# Altium integrated library WE-WPCC Wireless Power Charging Transmitter Coil.IntLib: 5 symbols
Pins are listed as number, name and electrical type; pins without a type are passive.

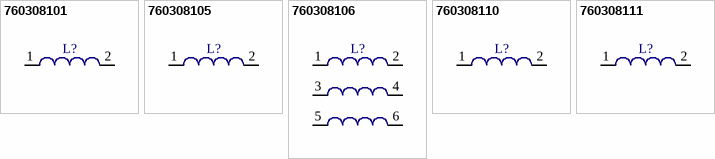
[diagram p0: symbols 760308101 to 760308111]

## 760308101
designator L?
Wireless Power Charging Coil  WE-WPCC, L=24.0 µH; PartNumber: 760308101; Inductance: 24.0 µH; PackageReference: A1; ComponentLink1Description: Manufacturer URL; ComponentLink1URL: http://www.we-online.com; ComponentLink2Description: Datasheet; ComponentLink2URL: http://katalog.we-online.de/kataloge/eisos/media/pdf/760308101.pdf
footprint A1 (THT Charging Coil ,2 Pin, Body 53.3x53.3mm)
pins: 1, 2

## 760308105
designator L?
Wireless Power Charging Coil  WE-WPCC, L=6.3 µH; PartNumber: 760308105; Inductance: 6.3 µH; PackageReference: A5; ComponentLink1Description: Manufacturer URL; ComponentLink1URL: http://www.we-online.com; ComponentLink2Description: Datasheet; ComponentLink2URL: http://katalog.we-online.de/kataloge/eisos/media/pdf/760308105.pdf
footprint A5 (THT Charging Coil ,2 Pin, Body 53.3x53.3mm)
pins: 1, 2

## 760308106
designator L?
Wireless Power Charging Coil  WE-WPCC, L=12.5 µH; PartNumber: 760308106; Inductance: 12.5 µH; PackageReference: A6; ComponentLink1Description: Manufacturer URL; ComponentLink1URL: http://www.we-online.com; ComponentLink2Description: Datasheet; ComponentLink2URL: http://katalog.we-online.de/kataloge/eisos/media/pdf/760308106.pdf
footprint A6 (THT Charging Coil ,2 Pin, Body 130x54.7mm)
pins: 1, 2, 3, 4, 5, 6

## 760308110
designator L?
Wireless Power Charging Coil  WE-WPCC, L=24.0 µH; PartNumber: 760308110; Inductance: 24.0 µH; PackageReference: A10; ComponentLink1Description: Manufacturer URL; ComponentLink1URL: http://www.we-online.com; ComponentLink2Description: Datasheet; ComponentLink2URL: http://katalog.we-online.de/kataloge/eisos/media/pdf/760308110.pdf
footprint A10 (THT Charging Coil ,2 Pin, Body 53.3x53.3mm)
pins: 1, 2

## 760308111
designator L?
Wireless Power Charging Coil  WE-WPCC, L=6.3 µH; PartNumber: 760308111; Inductance: 6.3 µH; PackageReference: A11; ComponentLink1Description: Manufacturer URL; ComponentLink1URL: http://www.we-online.com; ComponentLink2Description: Datasheet; ComponentLink2URL: http://katalog.we-online.de/kataloge/eisos/media/pdf/760308111.pdf
footprint A11 (THT Charging Coil ,2 Pin, Body 53.3x53.3mm)
pins: 1, 2